# EAGLE library part BQ51003 (library bq51003)
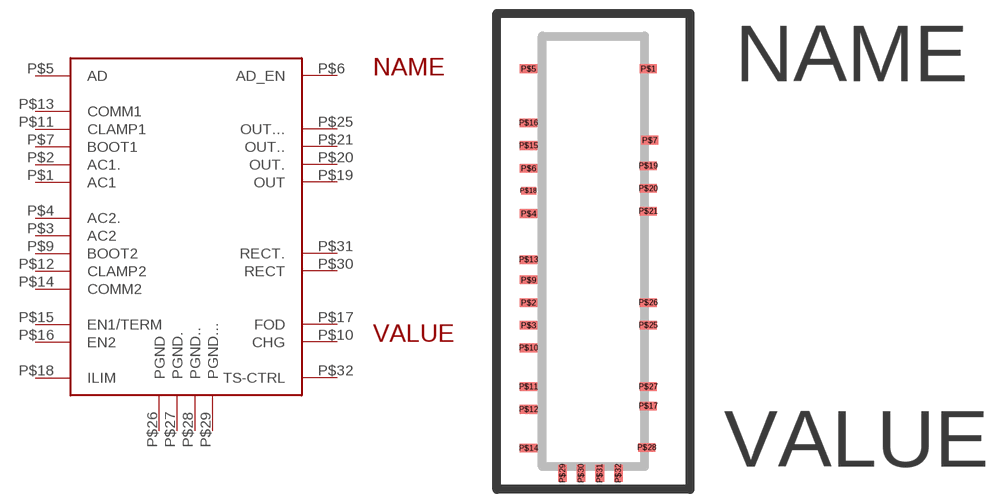
[diagram p0: symbol with the pads of BQ51003; footprint BQ51003]

Designator prefix -

## BQ51003  [BQ51003]
P$1  AC1
P$2  AC1.
P$3  AC2
P$4  AC2.
P$5  AD  oc
P$6  AD_EN
P$7  BOOT1
P$9  BOOT2
P$10  CHG
P$11  CLAMP1
P$12  CLAMP2
P$13  COMM1
P$14  COMM2
P$15  EN1/TERM
P$16  EN2
P$17  FOD
P$18  ILIM
P$19  OUT
P$20  OUT.
P$21  OUT..
P$25  OUT...
P$26  PGND
P$27  PGND.
P$28  PGND..
P$29  PGND...
P$30  RECT
P$31  RECT.
P$32  TS-CTRL

## Footprint BQ51003 (pad centres in mm)
smd 1.93 x 0.965: P$1 -17.35,33.18; P$2 -30.75,6.97; P$3 -30.75,4.43; P$4 -30.75,16.94; P$5 -30.75,33.18; P$6 -30.75,22.02; P$7 -17.19,25.17; P$9 -30.75,9.51; P$10 -30.75,1.89; P$11 -30.75,-2.46; P$12 -30.75,-5; P$13 -30.75,11.78; P$14 -30.75,-9.35; P$15 -30.75,24.56; P$16 -30.75,27.1; P$17 -17.35,-4.62; P$19 -17.35,22.29; P$20 -17.35,19.75; P$21 -17.35,17.21; P$25 -17.35,4.43; P$26 -17.35,6.97; P$27 -17.35,-2.46; P$28 -17.51,-9.27
smd 1.676 x 0.813: P$18 -30.75,19.48
smd 0.965 x 1.93: P$29 -26.94,-12.16; P$30 -24.86,-12.16; P$31 -22.78,-12.16; P$32 -20.7,-12.16